# EAGLE library part SCHA2B300 (library selfmade)
SCHA2B300 Micro SD Slot Available at csd-electronics
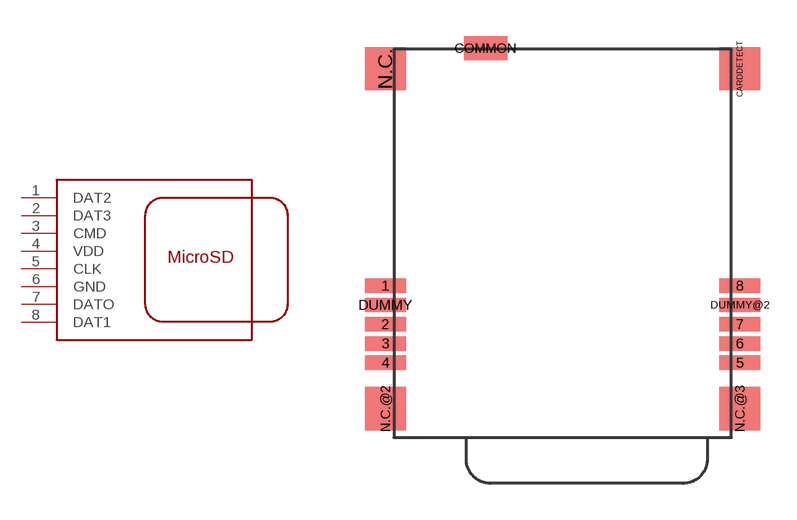
[diagram p0: symbol with the pads of SCHA2B300; footprint SCHA2B300]

Designator prefix IC

## SCHA2B300  [SCHA2B300]
1  DAT2
2  DAT3
3  CMD
4  VDD
5  CLK
6  GND
7  DATO
8  DAT1

## Footprint SCHA2B300 (pad centres in mm)
smd 1.7 x 0.6: 1 -7.35,-9.8; 2 -7.35,-11.4; 3 -7.35,-12.2; 4 -7.35,-13; 5 7.35,-13; 6 7.35,-12.2; 7 7.35,-11.4; 8 7.35,-9.8; DUMMY -7.35,-10.6; DUMMY@2 7.35,-10.6
smd 1.7 x 1.8: CARDDETECT 7.35,-0.8; N.C. -7.35,-0.8; N.C.@2 -7.35,-14.9; N.C.@3 7.35,-14.9
smd 1.8 x 1: COMMON -3.2,0.05